# Altium footprint library FL2500213Z.PcbLib: 1 footprints
Each footprint in its own frame and in the unit in brackets; x right, y up, seen from the top. Pads: shape width x height; smd on the part's side, far side on the other; paste and mask are expansions set on the pad; w line width, h text height; cw(c..) or ccw(c..) is an arc to the next point about the centre after c.
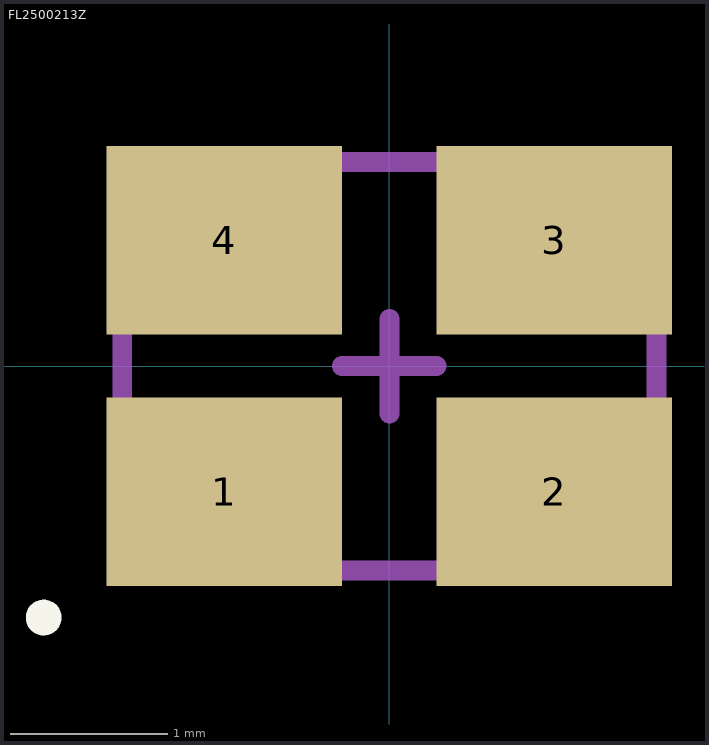
[diagram p0: the footprint, top view; thin cyan lines are the x and y axes]

## FL2500213Z [mm]
height 0.68
pads (4):
  rect 1.5x1.2 smd mask+0: 1(-1.05,-0.8) 2(1.05,-0.8) 3(1.05,0.8) 4(-1.05,0.8)
Top Overlay:
  circle w0.127: c-2.2,-1.6 r0.05
Mechanical 13 (Mech13):
  lines w0.127: -1.7,-1.3 1.7,-1.3 1.7,1.3 -1.7,1.3 -1.7,-1.3
Mechanical 15:
  lines w0.127: -0.3,0 0,0 ; 0,-0.3 0,0 ; 0,0.3 0,0 ; 0.3,0 0,0
3D body "FL2500213Z.stp": height 0.88, standoff 0, extent -1.68,-1.26 1.68,1.3